# EAGLE library part SOMO-14D (library apro)
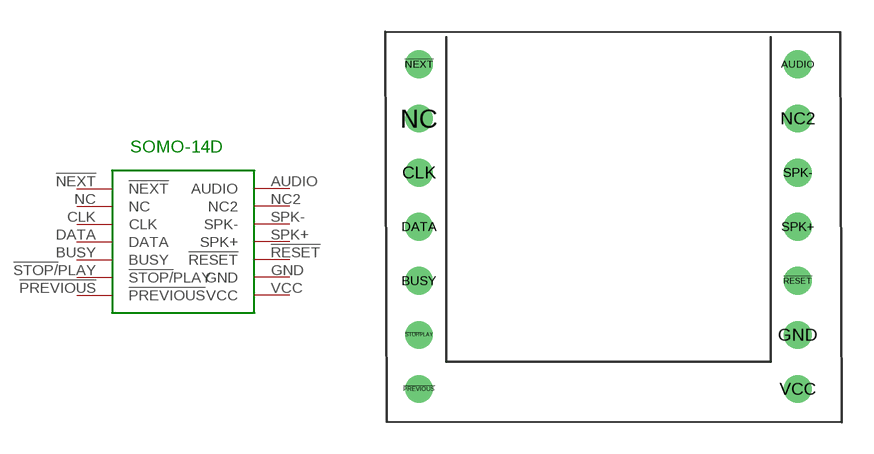
[diagram p1: symbol with the pads of SOMO-14D; footprint SOMO-14D]

Designator prefix -

## SOMO-14D  [SOMO-14D]
!NEXT  !NEXT
!PREVIOUS  !PREVIOUS
!RESET  !RESET
!STOP/!PLAY  !STOP/!PLAY
AUDIO  AUDIO
BUSY  BUSY
CLK  CLK
DATA  DATA
GND  GND
NC  NC
NC2  NC2
SPK+  SPK+
SPK-  SPK-
VCC  VCC

## Footprint SOMO-14D (pad centres in mm)
drill 0.8: !NEXT 0,0; !PREVIOUS 0,-15.24; !RESET 17.78,-10.16; !STOP/!PLAY 0,-12.7; AUDIO 17.78,0; BUSY 0,-10.16; CLK 0,-5.08; DATA 0,-7.62; GND 17.78,-12.7; NC 0,-2.54; NC2 17.78,-2.54; SPK+ 17.78,-7.62; SPK- 17.78,-5.08; VCC 17.78,-15.24